# EAGLE library part LM386 (library SparkFun-AnalogIC)
low voltage audio power amplifier
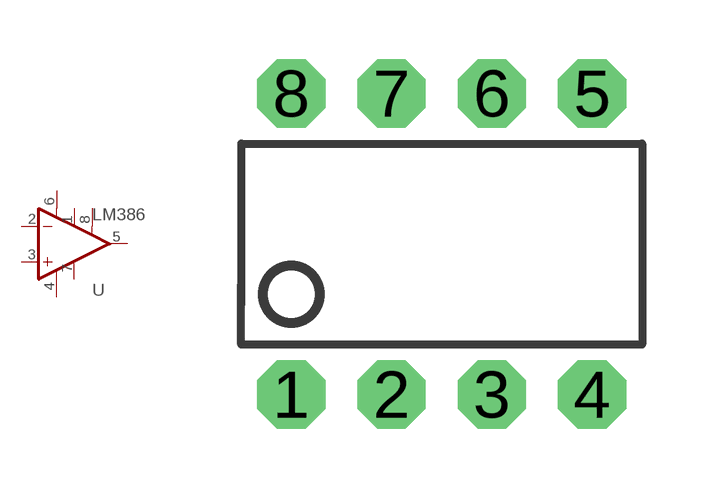
[diagram p33: symbol with the pads of DIP08; footprint DIP08]

Designator prefix U

## LM386  [DIP08]
1  GAIN
2  -IN  in
3  +IN  in
4  V-  pwr
5  OUT  out
6  V+  pwr
7  BP
8  GAIN

## Footprint DIP08 (pad centres in mm)
Dual In Line
drill 0.813 pad 1.727 octagon: 1 -3.81,-3.81; 2 -1.27,-3.81; 3 1.27,-3.81; 4 3.81,-3.81; 5 3.81,3.81; 6 1.27,3.81; 7 -1.27,3.81; 8 -3.81,3.81